# EAGLE library part TXB0104 (library Public)
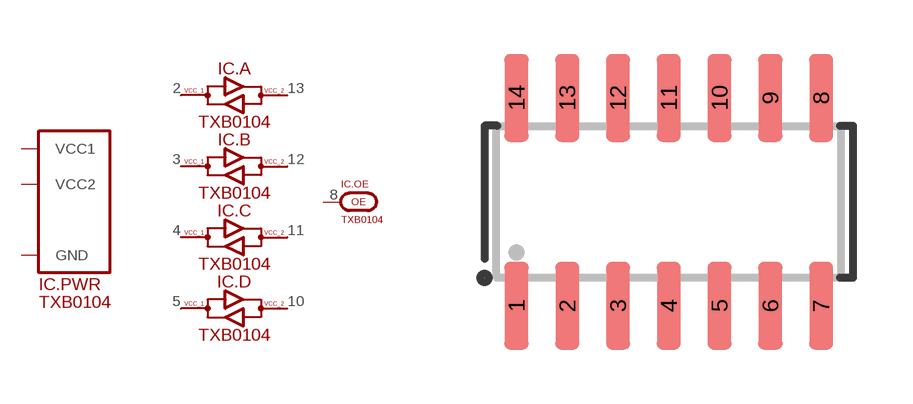
[diagram p104: symbol with the pads of SO14; footprint SO14]

Designator prefix IC; gates .PWR=SUPPLY_VCC1/VCC2/GND .A=LEVEL_SHIFTER_BIDIRECTIONAL .B=LEVEL_SHIFTER_BIDIRECTIONAL .C=LEVEL_SHIFTER_BIDIRECTIONAL .D=LEVEL_SHIFTER_BIDIRECTIONAL .OE=PIN_OE

## TXB0104  [SO14]
1  .PWR:VCC1
2  .A:1
3  .B:1
4  .C:1
5  .D:1
7  .PWR:GND
8  .OE:OE
10  .D:2
11  .C:2
12  .B:2
13  .A:2
14  .PWR:VCC2

## Footprint SO14 (pad centres in mm)
smd 0.6 x 2.2: 1 -3.81,-2.6; 2 -2.54,-2.6; 3 -1.27,-2.6; 4 0,-2.6; 5 1.27,-2.6; 6 2.54,-2.6; 7 3.81,-2.6; 8 3.81,2.6; 9 2.54,2.6; 10 1.27,2.6; 11 0,2.6; 12 -1.27,2.6; 13 -2.54,2.6; 14 -3.81,2.6